# EAGLE library part MICROBUILDER_DISP_OLED_UG-2864HSWEG01 (library STM32-PROX)
UG-2864HSWEG01 OLED display Both 1.3" and 0.96" models share the same FPC tab footprint, only the screen dimensions vary.
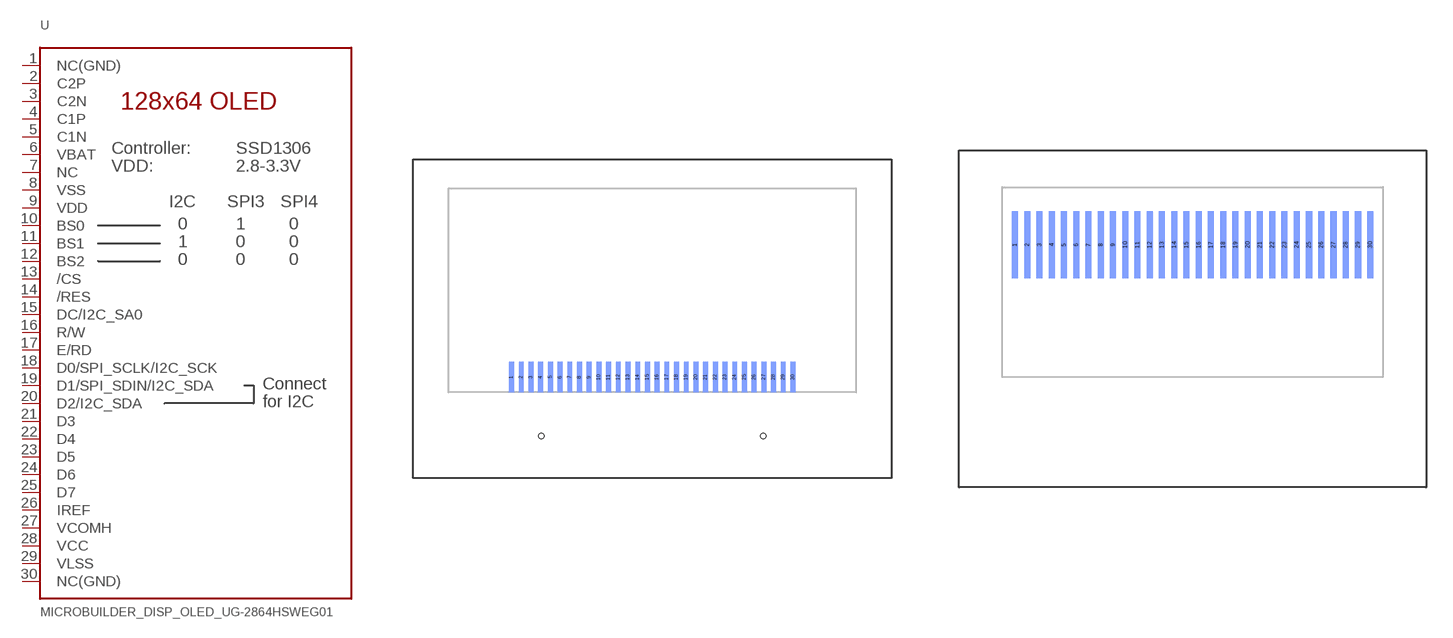
[diagram p7: symbol with the pads of MICROBUILDER_UG-2864HSWEG01_1.3_WRAPAROUND; footprints MICROBUILDER_UG-2864HSWEG01_1.3_WRAPAROUND, MICROBUILDER_UG-2864HSWEG01_0.96IN_WRAPAROUND]

Designator prefix U

## MICROBUILDER_DISP_OLED_UG-2864HSWEG01  [MICROBUILDER_UG-2864HSWEG01_1.3_WRAPAROUND]
1  NC(GND)  in
2  C2P  in
3  C2N  in
4  C1P  in
5  C1N  in
6  VBAT  in
7  NC  nc
8  VSS  pwr
9  VDD  pwr
10  BS0  in
11  BS1  in
12  BS2  in
13  /CS  in
14  /RES  in
15  DC/I2C_SA0  in
16  R/W  in
17  E/RD  in
18  D0/SPI_SCLK/I2C_SCK
19  D1/SPI_SDIN/I2C_SDA
20  D2/I2C_SDA
21  D3
22  D4
23  D5
24  D6
25  D7
26  IREF  in
27  VCOMH  out
28  VCC  pwr
29  VLSS  pwr
30  NC(GND)  in

## MICROBUILDER_DISP_OLED_UG-2864HSWEG010.96"  [MICROBUILDER_UG-2864HSWEG01_0.96IN_WRAPAROUND]
Pads as for MICROBUILDER_UG-2864HSWEG01_1.3_WRAPAROUND

## Footprint MICROBUILDER_UG-2864HSWEG01_1.3_WRAPAROUND (pad centres in mm)
smd 0.35 x 2.2 bottom: 1 -10.15,-0.2; 2 -9.45,-0.2; 3 -8.75,-0.2; 4 -8.05,-0.2; 5 -7.35,-0.2; 6 -6.65,-0.2; 7 -5.95,-0.2; 8 -5.25,-0.2; 9 -4.55,-0.2; 10 -3.85,-0.2; 11 -3.15,-0.2; 12 -2.45,-0.2; 13 -1.75,-0.2; 14 -1.05,-0.2; 15 -0.35,-0.2; 16 0.35,-0.2; 17 1.05,-0.2; 18 1.75,-0.2; 19 2.45,-0.2; 20 3.15,-0.2; 21 3.85,-0.2; 22 4.55,-0.2; 23 5.25,-0.2; 24 5.95,-0.2; 25 6.65,-0.2; 26 7.35,-0.2; 27 8.05,-0.2; 28 8.75,-0.2; 29 9.45,-0.2; 30 10.15,-0.2
hole 0.4 at -8,-4.45
hole 0.4 at 8,-4.45

## Footprint MICROBUILDER_UG-2864HSWEG01_0.96IN_WRAPAROUND (pad centres in mm)
smd 0.35 x 3.81 bottom: 1 -10.15,8.96; 2 -9.45,8.96; 3 -8.75,8.96; 4 -8.05,8.96; 5 -7.35,8.96; 6 -6.65,8.96; 7 -5.95,8.96; 8 -5.25,8.96; 9 -4.55,8.96; 10 -3.85,8.96; 11 -3.15,8.96; 12 -2.45,8.96; 13 -1.75,8.96; 14 -1.05,8.96; 15 -0.35,8.96; 16 0.35,8.96; 17 1.05,8.96; 18 1.75,8.96; 19 2.45,8.96; 20 3.15,8.96; 21 3.85,8.96; 22 4.55,8.96; 23 5.25,8.96; 24 5.95,8.96; 25 6.65,8.96; 26 7.35,8.96; 27 8.05,8.96; 28 8.75,8.96; 29 9.45,8.96; 30 10.15,8.96